# Altium footprint library MOD-BU-01-DW1000.PcbLib: 1 footprints
Each footprint in its own frame and in the unit in brackets; x right, y up, seen from the top. Pads: shape width x height; smd on the part's side, far side on the other; paste and mask are expansions set on the pad; w line width, h text height; cw(c..) or ccw(c..) is an arc to the next point about the centre after c.
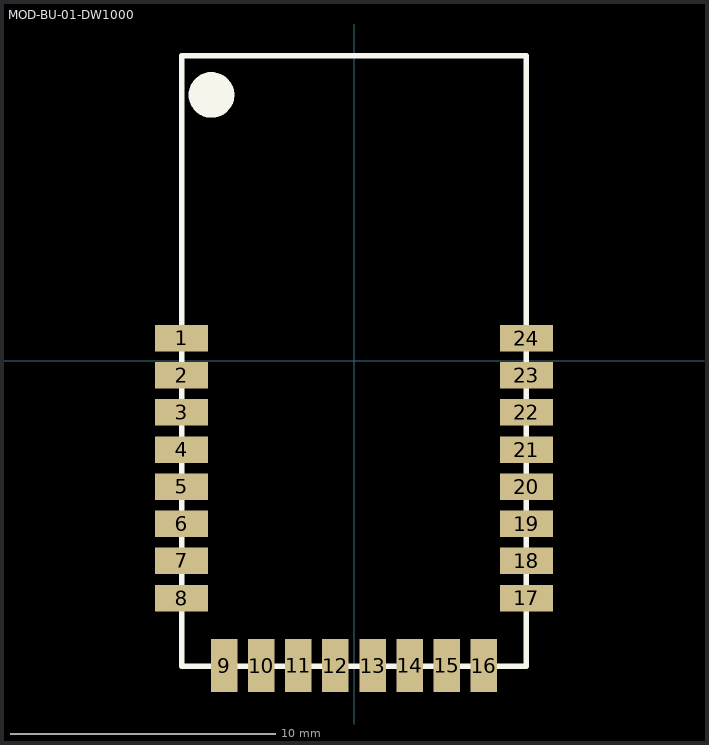
[diagram p0: the footprint, top view; thin cyan lines are the x and y axes]

## MOD-BU-01-DW1000 [mm]
height 3
pads (24):
  rect 2x1 smd: 1(-6.5,0.85) 2(-6.5,-0.55) 3(-6.5,-1.95) 4(-6.5,-3.35) 5(-6.5,-4.75) 6(-6.5,-6.15) 7(-6.5,-7.55) 8(-6.5,-8.95) 17(6.5,-8.95) 18(6.5,-7.55) 19(6.5,-6.15) 20(6.5,-4.75) 21(6.5,-3.35) 22(6.5,-1.95) 23(6.5,-0.55) 24(6.5,0.85)
  rect 1x2 smd: 9(-4.9,-11.5) 10(-3.5,-11.5) 11(-2.1,-11.5) 12(-0.7,-11.5) 13(0.7,-11.5) 14(2.1,-11.5) 15(3.5,-11.5) 16(4.9,-11.5)
Top Overlay:
  circle w1: c-5.375,10.025 r0.361
  lines w0.2: -6.5,-11.525 6.5,-11.525 6.5,11.5 -6.5,11.5 -6.5,-11.525
Top Assembly:
  circle w0.6: c-5.375,10.025 r0.1
  lines w0.1: -6.5,-11.525 6.5,-11.525 6.5,11.5 -6.5,11.5 -6.5,-11.525
  text "'.Designator'" at 0,0 h0.7
3D body "MOD-BU-01-DW1000.stp": height 3, standoff 0, extent -6.5,-11.5 6.5,11.5